# EAGLE library part MAX4922 (library common)
Dual-Channel 12-Bit DAC with SPI interface
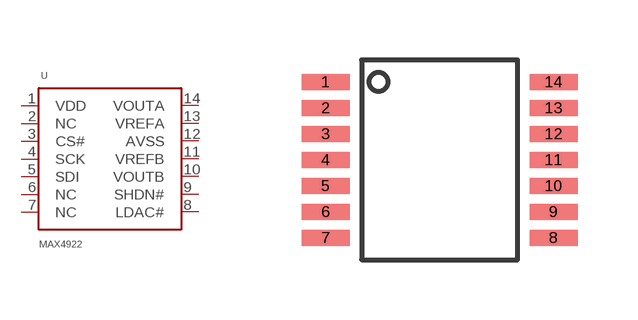
[diagram p31: symbol with the pads of TSSOP-14; footprint TSSOP-14]

Designator prefix U

## MAX4922  [TSSOP-14]
1  VDD
2  NC
3  CS#
4  SCK
5  SDI
6  NC
7  NC
8  LDAC#
9  SHDN#
10  VOUTB
11  VREFB
12  AVSS
13  VREFA
14  VOUTA

## Footprint TSSOP-14 (pad centres in mm)
smd 1.2 x 0.4: 1 -2.85,1.95; 2 -2.85,1.3; 3 -2.85,0.65; 4 -2.85,0; 5 -2.85,-0.65; 6 -2.85,-1.3; 7 -2.85,-1.95; 8 2.85,-1.95; 9 2.85,-1.3; 10 2.85,-0.65; 11 2.85,0; 12 2.85,0.65; 13 2.85,1.3; 14 2.85,1.95